# Altium footprint library ATMEGA328-PU.PcbLib: 1 footprints
Each footprint in its own frame and in the unit in brackets; x right, y up, seen from the top. Pads: shape width x height; smd on the part's side, far side on the other; paste and mask are expansions set on the pad; w line width, h text height; cw(c..) or ccw(c..) is an arc to the next point about the centre after c.
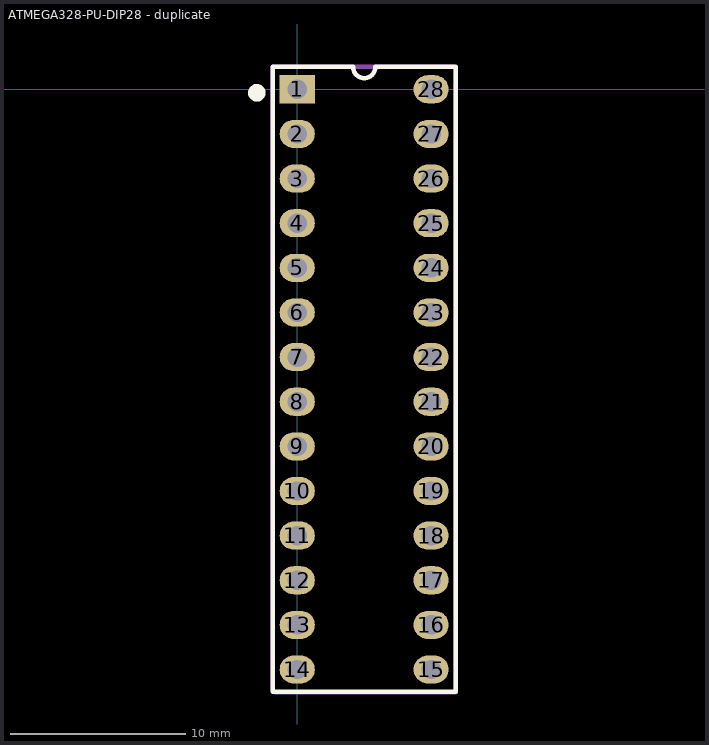
[diagram p0: the footprint, top view; thin cyan lines are the x and y axes]

## ATMEGA328-PU-DIP28 - duplicate [mm]
pads (28):
  rect 2x1.6 hole 1.1: 1(0,0)
  oval 2x1.6 hole 1.1: 2(0,-2.54) 3(0,-5.08) 4(0,-7.62) 5(0,-10.16) 6(0,-12.7) 7(0,-15.24) 8(0,-17.78) 9(0,-20.32) 10(0,-22.86) 11(0,-25.4) 12(0,-27.94) 13(0,-30.48) 14(0,-33.02) 15(7.62,-33.02) 16(7.62,-30.48) 17(7.62,-27.94) 18(7.62,-25.4) 19(7.62,-22.86) 20(7.62,-20.32) 21(7.62,-17.78) 22(7.62,-15.24) 23(7.62,-12.7) 24(7.62,-10.16) 25(7.62,-7.62) 26(7.62,-5.08) 27(7.62,-2.54) 28(7.62,0)
Top Overlay:
  circle w0.5: c-2.3,-0.2 r0.25
  lines w0.254: -1.39,-34.29 -1.39,1.27 3.175,1.27 ccw(c3.81,1.27) 4.445,1.27 9.01,1.27 9.01,-34.29 -1.39,-34.29
Mechanical 29:
  circle w0.5: c0.01,-0.01 r0.237
  lines w0.254: -1.39,-34.21 -1.39,1.29 8.91,1.29 9.01,1.19 9.01,-34.31 -1.29,-34.31 -1.39,-34.21
  text "'.Designator'" at 4.41,-18.31 h1.52
3D body "28 pin dip.step": height 6.25, standoff 0.03, extent -0.19,-34.381 7.684,1.56
3D body "dil_socket.stp": height 4.2, standoff -3.17, extent -1.25,-34.2 8.85,1.3